# EAGLE library part TPS62510 (library diode-20CJQ030)
Ti's TPS62510 1.5-A, LOW VI HIGH EFFICIENCY STEP-DOWN CONVERTER Description: The TPS62510 family are high-efficiency step-down converters targeted for operation from a 1.8-V to 3.8-V input voltage rail, ideally suited for 2-cell Alkaline or NiMHd applications. The TPS62510 is also ideal as a point-of-load regulator running from a fixed 3.3-V, 2.5-V or 1.8-V input voltage rail. The converter operates in fixed frequency PWM mode switching at 1.5 MHz with the MODE pin high. Pulling the MODE pin low enables the high efficiency mode. In high efficiency mode, the device operates with a 1.5 MHz fixed frequency PWM at nominal load current, and automatically enters the Power Save Mode at light load currents. For maximum system reliability, the converter features Output Voltage Tracking using the OVT pin to allow sequencing, and to allow for the output voltage to track an external voltage applied to this pin. Features: 1.8-V to 3.8-V Input Voltage Range Up to 96% High Efficiency Synchronous Step-Down Converter 1.5-MHz Fixed Frequency PWM Operation 1% Output Voltage Accuracy in Fixed Frequency PWM Mode Power Save Mode Operation for High Efficiency Over the Entire Load Current Range 22-mA Quiescent Current Fixed and Adjustable Output Voltage Output Voltage Tracking (OVT) for Reliable Sequencing Available in a 10-Pin QFN (3 x 3 mm) Package Applications: Portable Devices (Mobile Phone, PDA) 2-Cell NiMHd/Alkaline Applications Hard Disc Drives Point-Of-Load Regulation Notebook Computers WiMAX and WLAN Applications Please send any comments to: messi@users.sourceforge.net
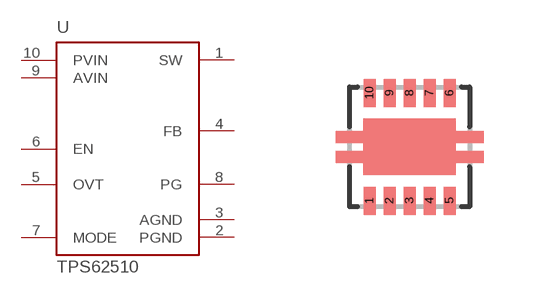
[diagram p185: symbol with the pads of QFN10; footprint QFN10]

Designator prefix U

## TPS62510DRC  [QFN10]
1  SW
2  PGND  pwr
3  AGND  pwr
4  FB
5  OVT  pwr
6  EN  in
7  MODE  in
8  PG
9  AVIN  pwr
10  PVIN  pwr

## Footprint QFN10 (pad centres in mm)
QFN10 for Ti's TPS6204x
smd 0.3 x 0.7: 1 -1,-1.35; 2 -0.5,-1.35; 3 0,-1.35; 4 0.5,-1.35; 5 1,-1.35; 6 1,1.35; 7 0.5,1.35; 8 0,1.35; 9 -0.5,1.35; 10 -1,1.35